# Altium footprint library SOT-563.PCBLIB: 2 footprints
Each footprint in its own frame and in the unit in brackets; x right, y up, seen from the top. Pads: shape width x height; smd on the part's side, far side on the other; paste and mask are expansions set on the pad; w line width, h text height; cw(c..) or ccw(c..) is an arc to the next point about the centre after c.
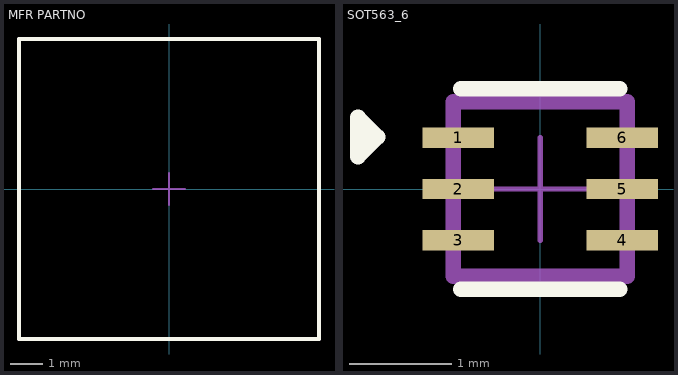
[diagram p0: the footprints below, top view; thin cyan lines are the x and y axes]

## MFR PARTNO [mm] "记得设置高度"
Top Overlay:
  lines w0.127: -4.7,-4.7 4.7,-4.7 4.7,4.7 -4.7,4.7 -4.7,-4.7
Top 元件外形:
  lines w0.127: -4.7,-4.7 -4.7,4.7 4.7,4.7 4.7,-4.7 -4.7,-4.7
Top 中心点:
  lines w0.051: -0.5,0 0.5,0 ; 0,-0.5 0,0.5

## SOT563_6 [mm]
pads (6):
  rect 0.7x0.2 smd paste-2539.97: 1(-0.8,0.5) 2(-0.8,0) 3(-0.8,-0.5) 4(0.8,-0.5) 5(0.8,0) 6(0.8,0.5)
Top Overlay:
  lines w0.152: -1.778,0.508 -1.587,0.508 ; -0.777,-0.977 0.777,-0.977 ; -0.777,0.977 0.777,0.977 ; -1.587,0.508 -1.778,0.699 -1.778,0.318 -1.587,0.508
Top 元件外形:
  lines w0.152: -0.85,-0.85 0.85,-0.85 0.85,0.85 -0.85,0.85 -0.85,-0.85
Top 中心点:
  lines w0.051: -0.5,0 0.5,0 ; 0,-0.5 0,0.5
3D body "DRL6.step": height 0.6, standoff 0, extent -0.85,-0.85 0.85,0.85